# Altium schematic symbol library 6EDL7141.SchLib: 1 symbol
Pins are listed as number, name and electrical type; pins without a type are passive.

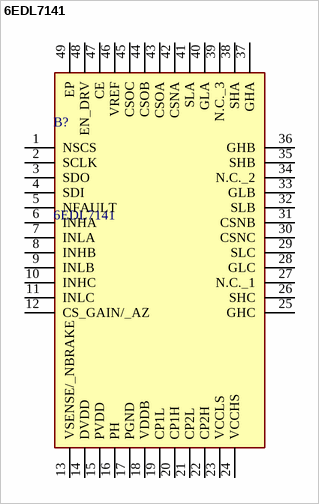
[diagram p0: symbol 6EDL7141]

## 6EDL7141
designator B?
3 phase smart gate driver, PG-VQFN-48-78; Manufacturer_Name: Infineon; Geometry.Height: 0.9mm; Manufacturer_Part_Number: 6EDL7141; Mouser Part Number: *; Mouser Price/Stock: *; Arrow Part Number: *; Arrow Price/Stock: *; Datasheet Link: https://www.infineon.com/dgdl/Infineon-6EDL7141-DataSheet-v01_00-EN.pdf?fileId=5546d46279cccfdb0179f4c1d3bf0756
footprint QFN50P700X700X90-49N-D
pins: 1 NSCS, 2 SCLK, 3 SDO, 4 SDI, 5 NFAULT, 6 INHA, 7 INLA, 8 INHB, 9 INLB, 10 INHC, 11 INLC, 12 CS_GAIN/_AZ, 13 VSENSE/_NBRAKE, 14 DVDD, 15 PVDD, 16 PH, 17 PGND, 18 VDDB, 19 CP1L, 20 CP1H, 21 CP2L, 22 CP2H, 23 VCCLS, 24 VCCHS, 25 GHC, 26 SHC, 27 N.C._1, 28 GLC, 29 SLC, 30 CSNC, 31 CSNB, 32 SLB, 33 GLB, 34 N.C._2, 35 SHB, 36 GHB, 37 GHA, 38 SHA, 39 N.C._3, 40 GLA, 41 SLA, 42 CSNA, 43 CSOA, 44 CSOB, 45 CSOC, 46 VREF, 47 CE, 48 EN_DRV, 49 EP